# EAGLE library part RE-DPDT-*- (library elpp-tht-v1.2)
Relay, DPDT
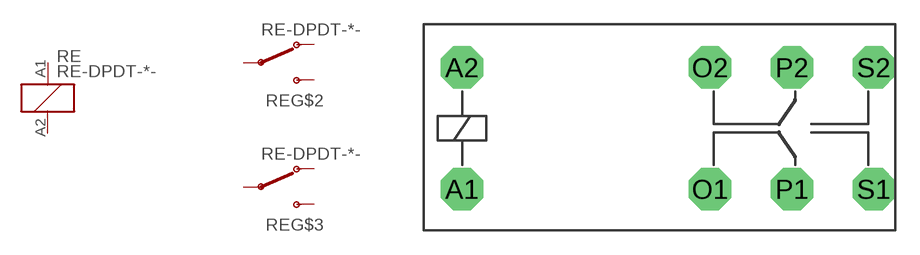
[diagram p50: symbol with the pads of ELPP-RELAY-RT2; footprint ELPP-RELAY-RT2]

Designator prefix RE; gates G$1=SOLENOID G$2=SWITCH-SPDT G$3=SWITCH-SPDT

## RE-DPDT-12V-RT2 (FARNELL: 1608374; RS: 7821264), RE-DPDT-5V-RT2 (FARNELL: 1629052; RS: 1986898)  [ELPP-RELAY-RT2]
A1  G$1:1  pas
A2  G$1:2  pas
O1  G$2:O  pas
O2  G$3:O  pas
P1  G$2:P  pas
P2  G$3:P  pas
S1  G$2:S  pas
S2  G$3:S  pas

## Footprint ELPP-RELAY-RT2 (pad centres in mm)
drill 1.3 pad 2.6 octagon: A1 -11.43,-3.81; A2 -11.43,3.69; O1 3.83,-3.81; O2 3.83,3.69; P1 8.87,-3.81; P2 8.87,3.69; S1 13.91,-3.81; S2 13.91,3.69